# EAGLE library part 28_PINS (library WallerLabLib)
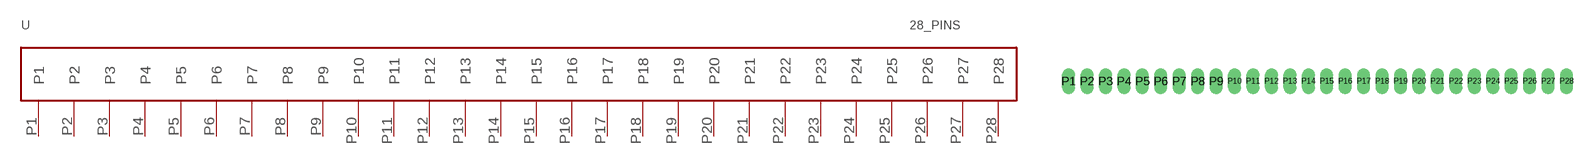
[diagram p14: symbol with the pads of 28PIN_HOLES; footprint 28PIN_HOLES]

Designator prefix -

## 28_PINS0  [28PIN_HOLES]
P1  P1
P2  P2
P3  P3
P4  P4
P5  P5
P6  P6
P7  P7
P8  P8
P9  P9
P10  P10
P11  P11
P12  P12
P13  P13
P14  P14
P15  P15
P16  P16
P17  P17
P18  P18
P19  P19
P20  P20
P21  P21
P22  P22
P23  P23
P24  P24
P25  P25
P26  P26
P27  P27
P28  P28

## Footprint 28PIN_HOLES (pad centres in mm)
drill 1.016 pad 1.778 long: P1 -34.29,0; P2 -31.75,0; P3 -29.21,0; P4 -26.67,0; P5 -24.13,0; P6 -21.59,0; P7 -19.05,0; P8 -16.51,0; P9 -13.97,0; P10 -11.43,0; P11 -8.89,0; P12 -6.35,0; P13 -3.81,0; P14 -1.27,0; P15 1.27,0; P16 3.81,0; P17 6.35,0; P18 8.89,0; P19 11.43,0; P20 13.97,0; P21 16.51,0; P22 19.05,0; P23 21.59,0; P24 24.13,0; P25 26.67,0; P26 29.21,0; P27 31.75,0; P28 34.29,0